# EAGLE library part M24C08 (library parts)
8-Kbit serial I²C bus EEPROM
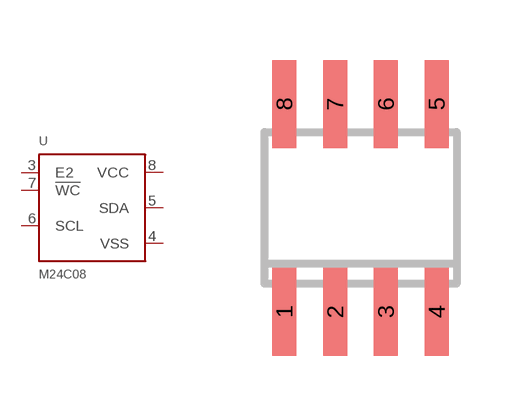
[diagram p4: symbol with the pads of SO8; footprint SO8]

Designator prefix U

## M24C08FMN (VCC: 1.7V - 5.5V), M24C08RMN (VCC: 1.8V - 5.5V), M24C08WMN (RS: 415-1180; VCC: 2.5V - 5.5V)  [SO8]
3  E2  in
4  VSS  pwr
5  SDA  oc
6  SCL  in
7  !WC  in
8  VCC  pwr

## Footprint SO8 (pad centres in mm)
8-Lead Small Outline IC (SO-8) JEDEC 150mil body, Source: http://www.analog.com/UploadedFiles/Data_Sheets/703465986AD8611_2_0.pdf
smd 0.6 x 2.2: 1 -1.905,-2.6; 2 -0.635,-2.6; 3 0.635,-2.6; 4 1.905,-2.6; 5 1.905,2.6; 6 0.635,2.6; 7 -0.635,2.6; 8 -1.905,2.6